# EAGLE library part SIGHTLINE_TXS0102DQM (library SLA_1500_CAM_V8)
TXS0102DQM 1.8 X 1.2 mm TXS0102 2-Bit Bidirectional Voltage-Level Translator TXS0102 DATASHEET <http://www.ti.com/lit/ds/symlink/txs0102.pdf>
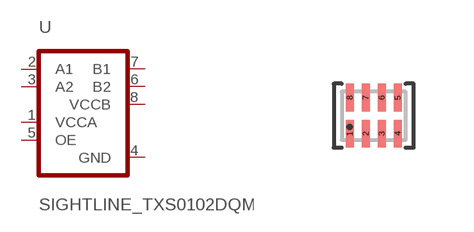
[diagram p3: symbol with the pads of SIGHTLINE_X2SON(8)1.8X1.2MM; footprint SIGHTLINE_X2SON(8)1.8X1.2MM]

Designator prefix U

## SIGHTLINE_TXS0102DQM (DESCRIPTION: TXS0102 2-Bit Bidirectional Voltage-Level Translator for Open-Drain and Push-Pull Applications; MANF: Texas Instruments; MANF#: TXS0102DQM)  [SIGHTLINE_X2SON(8)1.8X1.2MM]
1  VCCA
2  A1
3  A2
4  GND
5  OE
6  B2
7  B1
8  VCCB

## Footprint SIGHTLINE_X2SON(8)1.8X1.2MM (pad centres in mm)
smd 0.2 x 0.7: 1 -0.6,-0.45; 2 -0.2,-0.45; 3 0.2,-0.45; 4 0.6,-0.45; 5 0.6,0.45; 6 0.2,0.45; 7 -0.2,0.45; 8 -0.6,0.45